# Altium footprint library FLoRa0.0.PcbLib: 42 footprints (part 3 of 3)
Each footprint in its own frame and in the unit in brackets; x right, y up, seen from the top. Pads: shape width x height; smd on the part's side, far side on the other; paste and mask are expansions set on the pad; w line width, h text height; cw(c..) or ccw(c..) is an arc to the next point about the centre after c.
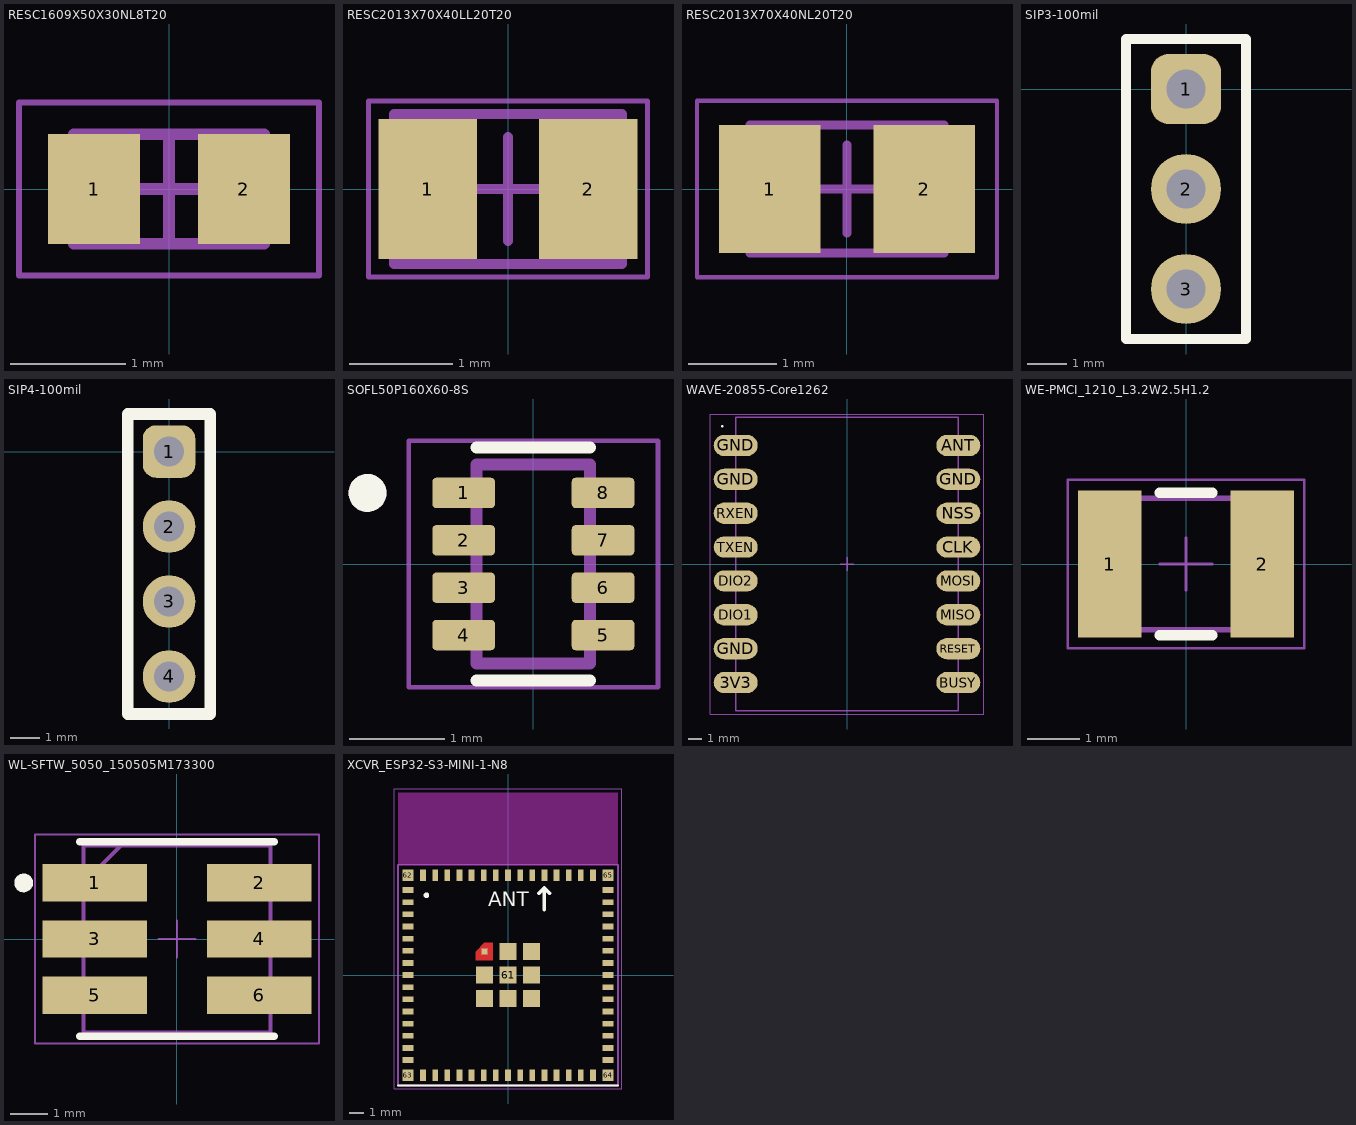
[diagram p2: the footprints below, top view; thin cyan lines are the x and y axes]

## RESC1609X50X30NL8T20 [mm] "Chip Resistor, 2-Leads, Body 1.65x0.95mm, IPC Medium Density"
height 0.5
pads (2):
  rect 0.8x0.95 smd: 1(-0.65,0) 2(0.65,0)
Top Assembly:
  lines w0.1: -0.825,-0.475 0.825,-0.475 0.825,0.475 -0.825,0.475 -0.825,-0.475
Top Courtyard:
  lines w0.05: -1.3,-0.75 1.3,-0.75 1.3,0.75 -1.3,0.75 -1.3,-0.75
  lines w0.1: -0.475,0 0.475,0 ; 0,-0.475 0,0.475
3D body "RESC1608X05N.step": height 0.5, standoff 0, extent -0.825,-0.475 0.825,0.475

## RESC2013X70X40LL20T20 [mm] "Chip Resistor, 2-Leads, Body 2.00x1.25mm, IPC High Density"
height 0.7
pads (2):
  rect 0.95x1.35 smd: 1(-0.775,0) 2(0.775,0)
Top Assembly:
  lines w0.1: -1.1,-0.725 1.1,-0.725 1.1,0.725 -1.1,0.725 -1.1,-0.725
Top Courtyard:
  lines w0.05: -1.35,-0.85 1.35,-0.85 1.35,0.85 -1.35,0.85 -1.35,-0.85
  lines w0.1: -0.5,0 0.5,0 ; 0,-0.5 0,0.5
3D body: height 0.7, standoff 0, extent 0.7,-0.725 1.1,0.725
3D body: height 0.7, standoff 0, extent -1.1,-0.725 -0.7,0.725
3D body: height 0.7, standoff 0, extent -0.7,-0.725 0.7,0.725

## RESC2013X70X40NL20T20 [mm] "Chip Resistor, 2-Leads, Body 2.00x1.25mm, IPC Medium Density"
height 0.7
pads (2):
  rect 1.15x1.45 smd: 1(-0.875,0) 2(0.875,0)
Top Assembly:
  lines w0.1: -1.1,-0.725 -1.1,0.725 1.1,0.725 1.1,-0.725 -1.1,-0.725
Top Courtyard:
  lines w0.05: -1.7,-1 -1.7,1 1.7,1 1.7,-1 -1.7,-1
  lines w0.1: -0.5,0 0.5,0 ; 0,-0.5 0,0.5
3D body: height 0.7, standoff 0, extent -0.7,-0.725 0.7,0.725
3D body: height 0.7, standoff 0, extent -1.1,-0.725 -0.7,0.725
3D body: height 0.7, standoff 0, extent 0.7,-0.725 1.1,0.725

## SIP3-100mil [mil]
pads (3):
  rrect50% 70x70 hole 39.37: 1(0,0)
  round 70 hole 39.37: 2(0,-100) 3(0,-200)
Top Overlay:
  lines w10: -60,-250 45,-250 60,-250 60,50 -60,50 -60,-250

## SIP4-100mil [mil]
pads (4):
  rrect50% 70x70 hole 39.37: 1(0,0)
  round 70 hole 39.37: 2(0,-100) 3(0,-200) 4(0,-300)
Top Overlay:
  lines w15.75: -55,-350 -55,50 55,50 55,-350 -55,-350
3D body "PPTC041LFBN-RC.step": height 335, standoff -126, extent -50,-365 50,55

## SOFL50P160X60-8S [mm] "SOFL50P160X60-8N with solder mask silver mods"
height 0.6
pads (8):
  rrect25% 0.66x0.32 smd mask+0: 1(-0.735,0.75) 2(-0.735,0.25) 3(-0.735,-0.25) 4(-0.735,-0.75) 5(0.735,-0.75) 6(0.735,-0.25) 7(0.735,0.25) 8(0.735,0.75)
Top Overlay:
  circle w0.2: c-1.75,0.75 r0.1
  lines w0.127: -0.6,-1.23 0.6,-1.23 ; -0.6,1.23 0.6,1.23
Top Solder:
  region: 1.115,-0.96 0.355,-0.96 0.355,-0.579 1.115,-0.579
  region: -0.355,-0.426 -1.115,-0.426 -1.115,-0.075 -0.355,-0.075
  region: 1.115,0.578 0.355,0.578 0.355,0.96 1.115,0.96
  region: 1.115,0.079 0.355,0.079 0.355,0.42 1.115,0.42
  region: 1.115,-0.42 0.355,-0.42 0.355,-0.08 1.115,-0.08
  region: -0.355,-0.96 -1.115,-0.96 -1.115,-0.578 -0.355,-0.578
  region: -0.355,0.077 -1.115,0.077 -1.115,0.426 -0.355,0.426
  region: -0.355,0.579 -1.115,0.579 -1.115,0.96 -0.355,0.96
Top Assembly:
  circle w0.2: c-1.75,0.75 r0.1
  lines w0.127: -0.6,-1.05 -0.6,1.05 0.6,1.05 0.6,-1.05 -0.6,-1.05
Top Courtyard:
  lines w0.05: -1.315,-1.3 -1.315,1.3 1.315,1.3 1.315,-1.3 -1.315,-1.3

## WAVE-20855-Core1262 [mm] "Chip Array, Flat, 16-Leads, Pitch 2.54mm,  Body 22.00x19.00mm,  IPC Medium Density"
height 1.5
pads (16):
  oval 3.3x1.6 smd: 3V3(-8.35,-8.89) ANT(8.35,8.89) BUSY(8.35,-8.89) CLK(8.35,1.27) DIO1(-8.35,-3.81) DIO2(-8.35,-1.27) GND(-8.35,-6.35) GND(-8.35,6.35) GND(-8.35,8.89) GND(8.35,6.35) MISO(8.35,-3.81) MOSI(8.35,-1.27) NSS(8.35,3.81) RESET(8.35,-6.35) RXEN(-8.35,3.81) TXEN(-8.35,1.27)
Top Overlay:
  circle w0.1: c-9.362,10.328 r0.05
Top Assembly:
  lines w0.1: -8.35,-11 -8.35,11 8.35,11 8.35,-11 -8.35,-11
Top Courtyard:
  lines w0.05: -10.27,-11.25 -10.27,11.25 10.27,11.25 10.27,-11.25 -10.27,-11.25
  lines w0.1: -0.5,0 0.5,0 ; 0,-0.5 0,0.5
3D body "Core126X.step": height 2.8, standoff 0.08, extent -9.525,-10.975 9.475,11.025

## WE-PMCI_1210_L3.2W2.5H1.2 [mm] "Power Molded Chip Inductor, body 3.2x2.5mm"
height 1.2
pads (2):
  rect 1.2x2.8 smd: 1(-1.45,0) 2(1.45,0)
Top Overlay:
  lines w0.2: -0.5,-1.35 0.5,-1.35 ; -0.5,1.35 0.5,1.35
Top 3D Body:
  lines w0.1: -1.6,-1.25 1.6,-1.25 1.6,1.25 -1.6,1.25 -1.6,-1.25
Top Component Outline:
  lines w0.1: -1.6,-1.25 1.6,-1.25 1.6,1.25 -1.6,1.25 -1.6,-1.25
Top Courtyard:
  lines w0.05: -0.5,0 0.5,0 ; 0,-0.5 0,0.5 ; -2.25,-1.6 -2.25,1.6 2.25,1.6 2.25,-1.6 -2.25,-1.6
Top Designator:
  text ".Designator" at -5.078,-0.339 h1.02
3D body "74479299xxx_1210.stp": height 1.2, standoff 0, extent -1.6,-1.25 1.6,1.25

## WL-SFTW_5050_150505M173300 [mm] "SMT Full-color TOP LED Waterclear, body 5x5mm"
height 1.8
pads (6):
  rect 2.8x1 smd: 1(-2.2,1.5) 2(2.2,1.5) 3(-2.2,0) 4(2.2,0) 5(-2.2,-1.5) 6(2.2,-1.5)
Top Overlay:
  circle w0.25: c-4.1,1.5 r0.125
  lines w0.2: -2.6,-2.6 2.6,-2.6 ; -2.6,2.6 2.6,2.6
Top Component Outline:
  lines w0.1: -2.5,1.5 -1.5,2.5 ; -2.5,-2.5 2.5,-2.5 2.5,2.5 -2.5,2.5 -2.5,-2.5
Top Courtyard:
  lines w0.05: -0.5,0 0.5,0 ; 0,-0.5 0,0.5 ; -3.8,-2.8 3.8,-2.8 3.8,2.8 -3.8,2.8 -3.8,-2.8
Top Designator:
  text ".Designator" at -5.078,-0.339 h1.02
3D body "150505M1xxx.stp": height 1.5, standoff 0.02, extent -2.7,-2.5 2.7,2.5

## XCVR_ESP32-S3-MINI-1-N8 [mm]
height 2.55
pads (73):
  rect 0.8x0.4 smd: 1(-7,5.95) 2(-7,5.1) 3(-7,4.25) 4(-7,3.4) 5(-7,2.55) 6(-7,1.7) 7(-7,0.85) 8(-7,0) 9(-7,-0.85) 10(-7,-1.7) 11(-7,-2.55) 12(-7,-3.4) 13(-7,-4.25) 14(-7,-5.1) 15(-7,-5.95) 31(7,-5.95) 32(7,-5.1) 33(7,-4.25) 34(7,-3.4) 35(7,-2.55) 36(7,-1.7) 37(7,-0.85) 38(7,0) 39(7,0.85) 40(7,1.7) 41(7,2.55) 42(7,3.4) 43(7,4.25) 44(7,5.1) 45(7,5.95)
  rect 0.4x0.8 smd: 16(-5.95,-7) 17(-5.1,-7) 18(-4.25,-7) 19(-3.4,-7) 20(-2.55,-7) 21(-1.7,-7) 22(-0.85,-7) 23(0,-7) 24(0.85,-7) 25(1.7,-7) 26(2.55,-7) 27(3.4,-7) 28(4.25,-7) 29(5.1,-7) 30(5.95,-7) 46(5.95,7) 47(5.1,7) 48(4.25,7) 49(3.4,7) 50(2.55,7) 51(1.7,7) 52(0.85,7) 53(0,7) 54(-0.85,7) 55(-1.7,7) 56(-2.55,7) 57(-3.4,7) 58(-4.25,7) 59(-5.1,7) 60(-5.95,7)
  rect 1.2x1.2 smd: 61(0,0) 61_2(0,1.65) 61_3(1.65,1.65) 61_4(1.65,0) 61_5(1.65,-1.65) 61_6(0,-1.65) 61_7(-1.65,-1.65) 61_8(-1.65,0)
  rect 0.4x0.4 smd paste-1 mask+0: 61_1(-1.65,1.65)
  rect 0.8x0.8 smd: 62(-7,7) 63(-7,-7) 64(7,-7) 65(7,7)
Top Layer:
  region: -1.05,1.05 -2.25,1.05 -2.25,1.65 -1.65,2.25 -1.05,2.25
Top Overlay:
  circle w0.2: c-5.715,5.588 r0.1
  lines w0.127: -7.7,-7.725 7.7,-7.725
  lines w0.254: 2.54,4.572 2.54,6.096 ; 2.921,5.715 2.54,6.096 ; 2.54,6.096 2.159,5.715 2.54,6.096
  text "ANT" at -1.397,4.826 h1.02
Top Paste:
  region: -1.05,1.05 -2.25,1.05 -2.25,1.65 -1.65,2.25 -1.05,2.25
Top Solder:
  region: -0.95,0.95 -2.35,0.95 -2.35,1.7 -1.7,2.35 -0.95,2.35
Keep-Out Layer:
  region: 7.7,7.725 -7.7,7.725 -7.7,12.775 7.7,12.775
  region: 7.7,7.725 -7.7,7.725 -7.7,12.775 7.7,12.775
Top Assembly:
  lines w0.127: -7.7,-7.725 7.7,-7.725 7.7,7.725 -7.7,7.725 -7.7,-7.725
Top Courtyard:
  lines w0.05: -7.95,-7.975 -7.95,13.025 7.95,13.025 7.95,-7.975 -7.95,-7.975
3D body "step_temp.STEP": height 2.55, standoff 0, extent -7.7,-7.725 7.7,12.775